# Altium schematic symbol library MCU_Puya.SchLib: 2 symbols
Pins are listed as number, name and electrical type; pins without a type are passive.

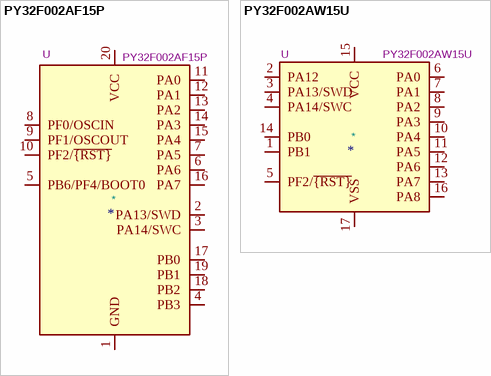
[diagram p0: symbols PY32F002AF15P to PY32F002AW15U]

## PY32F002AF15P
designator *  value PY32F002AF15P  Reference: U
Puya PY32 ARM Cortex-M0 MCU, 20 KB Flash, 3 KB RAM, 24 MHz, 1.7-5.5V, 18 GPIO, TSSOP20; ki_fp_filters: TSSOP*P0.65mm*; Footprint: Package_SO:TSSOP-20_4.4x6.5mm_P0.65mm; Datasheet: https://www.puyasemi.com/download_path/%E6%95%B0%E6%8D%AE%E6%89%8B%E5%86%8C/MCU%20%E5%BE%AE%E5%A4%84%E7%90%86%E5%99%A8/PY32F002A_Datasheet_V0.2.pdf; Description_: Puya PY32 ARM Cortex-M0 MCU, 20 KB Flash, 3 KB RAM, 24 MHz, 1.7-5.5V, 18 GPIO, TSSOP20; ki_keywords: puya py32 arm cortex-m0
pins: 1 GND, 2 PA13/SWD, 3 PA14/SWC, 4 PB3, 5 PB6/PF4/BOOT0, 6 PA6, 7 PA5, 8 PF0/OSCIN, 9 PF1/OSCOUT, 10 PF2/~{{RST}}, 11 PA0, 12 PA1, 13 PA2, 14 PA3, 15 PA4, 16 PA7, 17 PB0, 18 PB2, 19 PB1, 20 VCC

## PY32F002AW15U
designator *  value PY32F002AW15U  Reference: U
32-bit ARM Cortex-M0+ Microcontroller, 20 KB Flash, 3 KB SRAM, 24 MHz, 1.7V - 5.5V, 15 GPIO, WQFN-16; ki_keywords: MCU I2C SPI USART ADC SWD; ki_fp_filters: *QFN*3x3mm*P0.5mm*EP1.7*x1.7*; Footprint: Package_DFN_QFN:WQFN-16-1EP_3x3mm_P0.5mm_EP1.75x1.75mm; Datasheet: https://www.puyasemi.com/download_path/%E6%95%B0%E6%8D%AE%E6%89%8B%E5%86%8C/MCU%20%E5%BE%AE%E5%A4%84%E7%90%86%E5%99%A8/PY32F002A_Datasheet_V0.2.pdf; Description_: 32-bit ARM Cortex-M0+ Microcontroller, 20 KB Flash, 3 KB SRAM, 24 MHz, 1.7V - 5.5V, 15 GPIO, WQFN-16
pins: 1 PB1, 2 PA12, 3 PA13/SWD, 4 PA14/SWC, 5 PF2/~{{RST}}, 6 PA0, 7 PA1, 8 PA2, 9 PA3, 10 PA4, 11 PA5, 12 PA6, 13 PA7, 14 PB0, 15 VCC, 16 PA8, 17 VSS